# Altium footprint library PT61018PEL.PcbLib: 1 footprints
Each footprint in its own frame and in the unit in brackets; x right, y up, seen from the top. Pads: shape width x height; smd on the part's side, far side on the other; paste and mask are expansions set on the pad; w line width, h text height; cw(c..) or ccw(c..) is an arc to the next point about the centre after c.
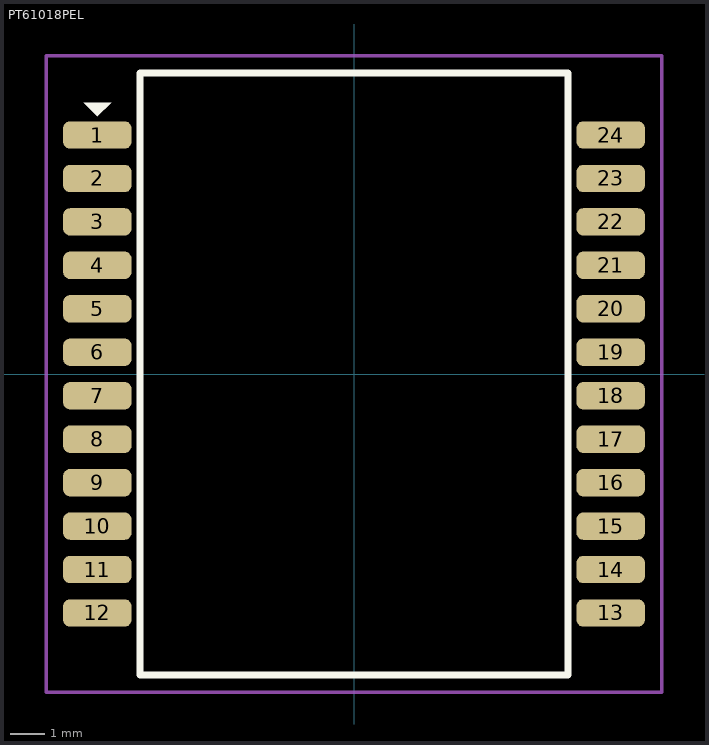
[diagram p0: the footprint, top view; thin cyan lines are the x and y axes]

## PT61018PEL [mm]
pads (24):
  rrect50% 2x0.8 smd: 1(-7.5,6.985) 2(-7.5,5.715) 3(-7.5,4.445) 4(-7.5,3.175) 5(-7.5,1.905) 6(-7.5,0.635) 7(-7.5,-0.635) 8(-7.5,-1.905) 9(-7.5,-3.175) 10(-7.5,-4.445) 11(-7.5,-5.715) 12(-7.5,-6.985) 13(7.5,-6.985) 14(7.5,-5.715) 15(7.5,-4.445) 16(7.5,-3.175) 17(7.5,-1.905) 18(7.5,-0.635) 19(7.5,0.635) 20(7.5,1.905) 21(7.5,3.175) 22(7.5,4.445) 23(7.5,5.715) 24(7.5,6.985)
Top Overlay:
  region: -7.9,7.935 -7.1,7.935 -7.5,7.535
  lines w0.2: -6.25,-8.8 -6.25,8.8 6.25,8.8 6.25,-8.8 -6.25,-8.8
Top Courtyard:
  lines w0.1: -9,-9.3 -6.25,-9.3 9,-9.3 9,9.3 -9,9.3 -9,-9.3
3D body "PT61020EL--3DModel-STEP-56544.STEP": height 6, standoff 0, extent -8,-8.81 8,8.81